# EAGLE library part 612X2020621 (library Wuerth_Elektronik_eiCan_Wire_to_Board_Connectors)
WR-BHD 2.54mm Male SMT Box Header High Temperature, 20 Pins=>Code : Con_WTB_BHD_2.54_Male_SMT_612X2020621 <http://katalog.we-online.de/media/thumbs2/eican/thb_Con_WTB_BHD_2.54_Male_SMT_6120xx20621_pf2.jpg> Details see: http://katalog.we-online.de/en/em/612_0xx_206_21 Created 2014-06-05, Karrer Zheng 2014 (C) Würth Elektronik
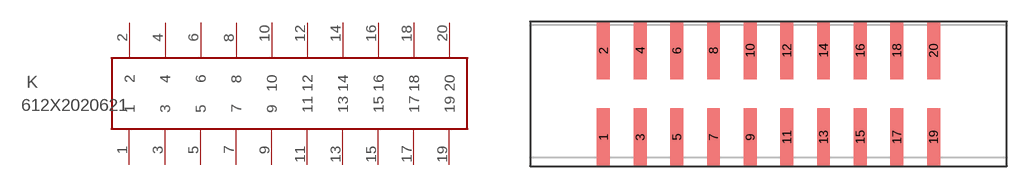
[diagram p105: symbol with the pads of 612X2020621; footprint 612X2020621]

Designator prefix K

## 612X2020621  [612X2020621]
1  1  pas
2  2  pas
3  3  pas
4  4  pas
5  5  pas
6  6  pas
7  7  pas
8  8  pas
9  9  pas
10  10  pas
11  11  pas
12  12  pas
13  13  pas
14  14  pas
15  15  pas
16  16  pas
17  17  pas
18  18  pas
19  19  pas
20  20  pas

## Footprint 612X2020621 (pad centres in mm)
WR-BHD 2.54mm Male SMT Box Header High Temperature, 20 pins
smd 0.9 x 4: 1 0,-3; 2 0,3; 3 2.54,-3; 4 2.54,3; 5 5.08,-3; 6 5.08,3; 7 7.62,-3; 8 7.62,3; 9 10.16,-3; 10 10.16,3; 11 12.7,-3; 12 12.7,3; 13 15.24,-3; 14 15.24,3; 15 17.78,-3; 16 17.78,3; 17 20.32,-3; 18 20.32,3; 19 22.86,-3; 20 22.86,3